# Altium footprint library 100ufCap.PcbLib: 1 footprints
Each footprint in its own frame and in the unit in brackets; x right, y up, seen from the top. Pads: shape width x height; smd on the part's side, far side on the other; paste and mask are expansions set on the pad; w line width, h text height; cw(c..) or ccw(c..) is an arc to the next point about the centre after c.
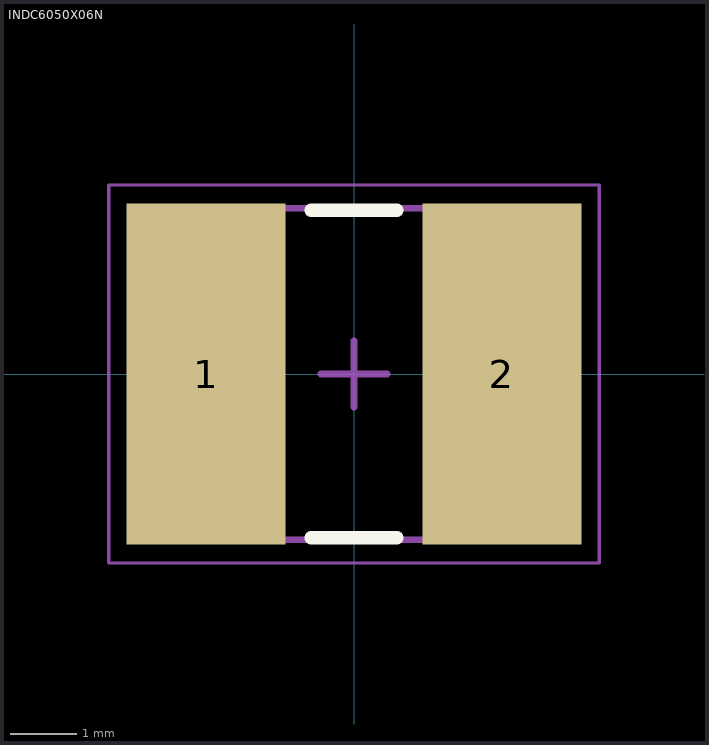
[diagram p0: the footprint, top view; thin cyan lines are the x and y axes]

## INDC6050X06N [mm] "Chip Inductor, 2-Leads, Body 6.00x5.00mm, IPC Medium Density"
height 0.6
pads (2):
  rect 2.4x5.14 smd: 1(-2.23,0) 2(2.23,0)
Top Overlay:
  lines w0.2: -0.65,-2.47 0.65,-2.47 ; -0.65,2.47 0.65,2.47
Mechanical 13:
  lines w0.1: -3,-2.5 3,-2.5 3,2.5 -3,2.5 -3,-2.5
Mechanical 15:
  lines w0.05: -3.7,-2.85 3.7,-2.85 3.7,2.85 -3.7,2.85 -3.7,-2.85
  lines w0.1: -0.5,0 0.5,0 ; 0,-0.5 0,0.5
3D body: height 0.6, standoff 0, extent 2,-2.5 3,2.5
3D body: height 0.6, standoff 0, extent -3,-2.5 -2,2.5
3D body: height 0.6, standoff 0, extent -2,-2.5 2,2.5